# EAGLE library part IDC-DIP-2P16-E (library Pygmy)
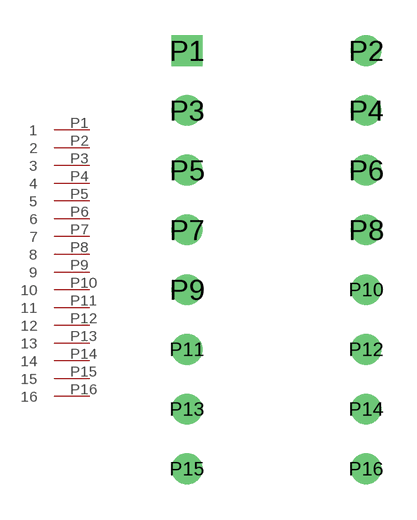
[diagram p38: symbol with the pads of IDC-DIP-2P16-E; footprint IDC-DIP-2P16-E]

Designator prefix -

## IDC-DIP-2P16-EIDC-DIP-2P16-E  [IDC-DIP-2P16-E]
P1  1
P2  2
P3  3
P4  4
P5  5
P6  6
P7  7
P8  8
P9  9
P10  10
P11  11
P12  12
P13  13
P14  14
P15  15
P16  16

## Footprint IDC-DIP-2P16-E (pad centres in mm)
drill 0.8 square: P1 0,0
drill 0.8: P2 7.62,0; P3 0,-2.54; P4 7.62,-2.54; P5 0,-5.08; P6 7.62,-5.08; P7 0,-7.62; P8 7.62,-7.62; P9 0,-10.16; P10 7.62,-10.16; P11 0,-12.7; P12 7.62,-12.7; P13 0,-15.24; P14 7.62,-15.24; P15 0,-17.78; P16 7.62,-17.78